# EAGLE library part LM219D (library ST_Microelctronics_By_element14_Batch_1)
High speed dual comparators
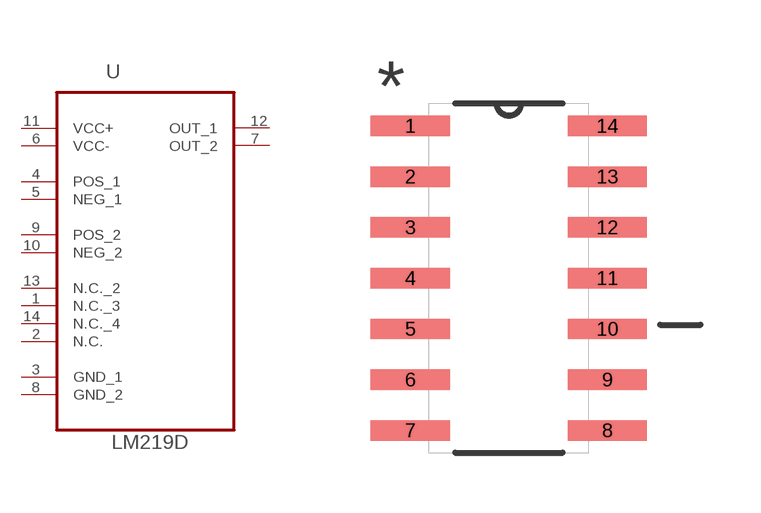
[diagram p88: symbol with the pads of SOIC127P600X175-14N; footprint SOIC127P600X175-14N]

Designator prefix U

## LM219D (MPN: LM219D; OC_FARNELL: 1467679; OC_NEWARK: 89K0654; PACKAGE: SOIC-14; SUPPLIER: STMICROELECTRONICS)  [SOIC127P600X175-14N]
1  N.C._3  nc
2  N.C.  nc
3  GND_1  pas
4  POS_1  in
5  NEG_1  in
6  VCC-  pwr
7  OUT_2  out
8  GND_2  pas
9  POS_2  in
10  NEG_2  in
11  VCC+  pwr
12  OUT_1  out
13  N.C._2  nc
14  N.C._4  nc

## Footprint SOIC127P600X175-14N (pad centres in mm)
smd 1.981 x 0.508: 1 -2.464,3.81; 2 -2.464,2.54; 3 -2.464,1.27; 4 -2.464,0; 5 -2.464,-1.27; 6 -2.464,-2.54; 7 -2.464,-3.81; 8 2.464,-3.81; 9 2.464,-2.54; 10 2.464,-1.27; 11 2.464,0; 12 2.464,1.27; 13 2.464,2.54; 14 2.464,3.81